# Altium footprint library SDSURP.PcbLib: 1 footprints
Each footprint in its own frame and in the unit in brackets; x right, y up, seen from the top. Pads: shape width x height; smd on the part's side, far side on the other; paste and mask are expansions set on the pad; w line width, h text height; cw(c..) or ccw(c..) is an arc to the next point about the centre after c.
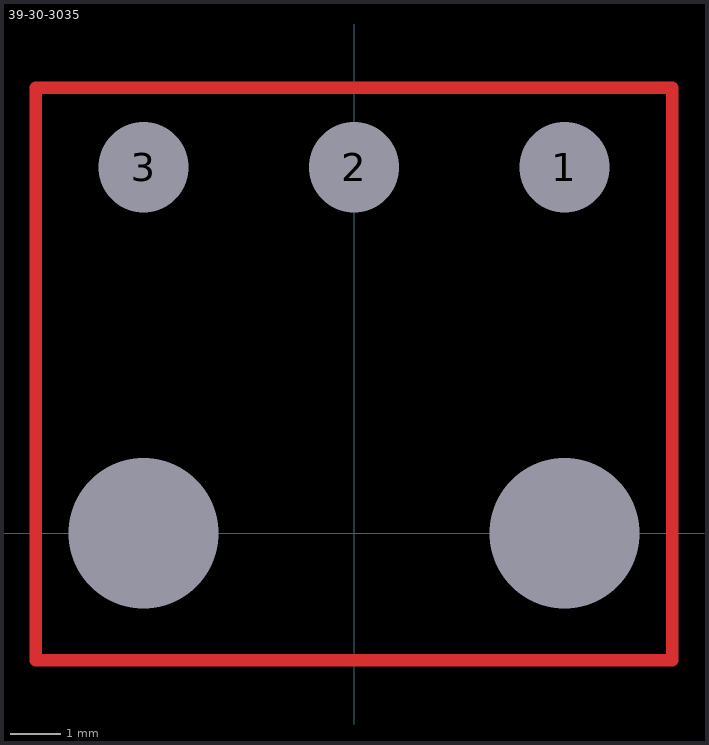
[diagram p0: the footprint, top view; thin cyan lines are the x and y axes]

## 39-30-3035 [mm] "Mini-Fit Jr. Header, Single Row, Right Angle, with Snap-in Plastic Peg PCB Lock, 3 Circuits, PA Polyamide Nylon 6/6, 94V-2, Tin (Sn) Plating"
pads (5):
  round 1.524 hole 1.8: 1(4.2,7.3) 2(0,7.3) 3(-4.2,7.3)
  round 1.524 hole 3: ""(-4.2,0) ""(4.2,0)
Top Layer:
  lines w0.254: -6.35,-2.54 -6.35,8.89 6.35,8.89 6.35,-2.54 -6.35,-2.54